# Altium schematic symbol library Altium_WE_eiSos_WE-DS Bent 90°-TH.SchLib: 8 symbols
Pins are listed as number, name and electrical type; pins without a type are passive.

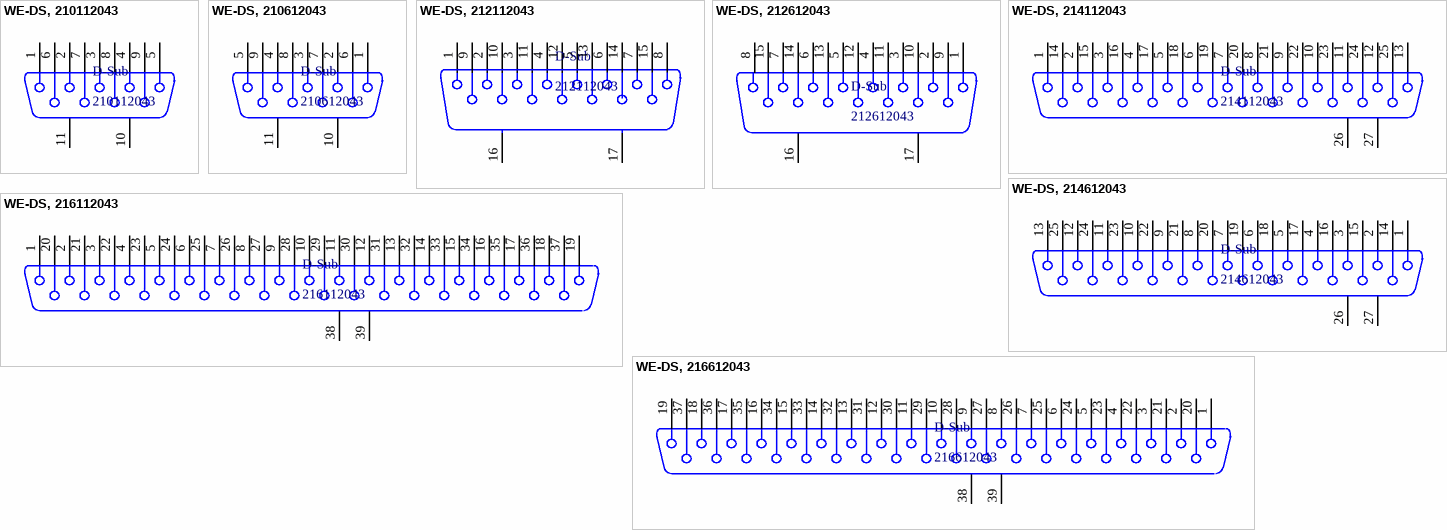
[diagram p0: symbols WE-DS, 210112043 to WE-DS, 216612043]

## WE-DS, 210112043
designator D-Sub, comment 210112043
D-SUB-Filter Connectors WE-DS, Bent 90°,TH; Manufacturer: Würth Elektronik eiSos GmbH; partNo: 210112043; ComponentLink1Description: Manufacturer; ComponentLink1URL: http://www.we-online.de; Created by: Christin Zierenner; Created Date: May 2012; ComponentLink2Description: Datasheet; ComponentLink2URL: http://katalog.we-online.de/kataloge/eisos/index.php?language=en&pf=Filter_abgewinkelt
footprint WE-DS, 210112043 (D-SUB- 9P, MALE, RT ANGLE, TH)
pins: 1, 2, 3, 4, 5, 6, 7, 8, 9, 10 MH1, 11 MH2

## WE-DS, 210612043
designator D-Sub, comment 210612043
D-SUB-Filter Connectors WE-DS, Bent 90°,TH; Manufacturer: Würth Elektronik eiSos GmbH; partNo: 210612043; ComponentLink1Description: Manufacturer; ComponentLink1URL: http://www.we-online.de; Created by: Christin Zierenner; Created Date: May 2012; ComponentLink2Description: Datasheet; ComponentLink2URL: http://katalog.we-online.de/kataloge/eisos/index.php?language=en&pf=Filter_abgewinkelt
footprint WE-DS, 210612043 (D-SUB- 9P, FEMALE, RT ANGLE, TH)
pins: 1, 2, 3, 4, 5, 6, 7, 8, 9, 10 MH1, 11 MH2

## WE-DS, 212112043
designator D-Sub, comment 212112043
D-SUB-Filter Connectors WE-DS, Bent 90°,TH; Manufacturer: Würth Elektronik eiSos GmbH; partNo: 212112043; ComponentLink1Description: Manufacturer; ComponentLink1URL: http://www.we-online.de; Created by: Christin Zierenner; Created Date: May 2012; ComponentLink2Description: Datasheet; ComponentLink2URL: http://katalog.we-online.de/kataloge/eisos/index.php?language=en&pf=Filter_abgewinkelt
footprint WE-DS, 212112043 (D-SUB- 15P, MALE, RT ANGLE, TH)
pins: 1, 2, 3, 4, 5, 6, 7, 8, 9, 10, 11, 12, 13, 14, 15, 16 MH1, 17 MH2

## WE-DS, 212612043
designator D-Sub, comment 212612043
D-SUB-Filter Connectors WE-DS, Bent 90°,TH; Manufacturer: Würth Elektronik eiSos GmbH; partNo: 212612043; ComponentLink1Description: Manufacturer; ComponentLink1URL: http://www.we-online.de; Created by: Christin Zierenner; Created Date: May 2012; ComponentLink2Description: Datasheet; ComponentLink2URL: http://katalog.we-online.de/kataloge/eisos/index.php?language=en&pf=Filter_abgewinkelt
footprint WE-DS, 212612043 (D-SUB- 15P, FEMALE, RT ANGLE, TH)
pins: 1, 2, 3, 4, 5, 6, 7, 8, 9, 10, 11, 12, 13, 14, 15, 16 MH1, 17 MH2

## WE-DS, 214112043
designator D-Sub, comment 214112043
D-SUB-Filter Connectors WE-DS, Bent 90°,TH; Manufacturer: Würth Elektronik eiSos GmbH; partNo: 214112043; ComponentLink1Description: Manufacturer; ComponentLink1URL: http://www.we-online.de; Created by: Christin Zierenner; Created Date: May 2012; ComponentLink2Description: Datasheet; ComponentLink2URL: http://katalog.we-online.de/kataloge/eisos/index.php?language=en&pf=Filter_abgewinkelt
footprint WE-DS, 214112043 (D-SUB- 25P, MALE, RT ANGLE, TH)
pins: 1, 2, 3, 4, 5, 6, 7, 8, 9, 10, 11, 12, 13, 14, 15, 16, 17, 18, 19, 20, 21, 22, 23, 24, 25, 26 MH1, 27 MH2

## WE-DS, 214612043
designator D-Sub, comment 214612043
D-SUB-Filter Connectors WE-DS, Bent 90°,TH; Manufacturer: Würth Elektronik eiSos GmbH; partNo: 214612043; ComponentLink1Description: Manufacturer; ComponentLink1URL: http://www.we-online.de; Created by: Christin Zierenner; Created Date: May 2012; ComponentLink2Description: Datasheet; ComponentLink2URL: http://katalog.we-online.de/kataloge/eisos/index.php?language=en&pf=Filter_abgewinkelt
footprint WE-DS, 214612043 (D-SUB- 25P, FEMALE, RT ANGLE, TH)
pins: 1, 2, 3, 4, 5, 6, 7, 8, 9, 10, 11, 12, 13, 14, 15, 16, 17, 18, 19, 20, 21, 22, 23, 24, 25, 26 MH1, 27 MH2

## WE-DS, 216112043
designator D-Sub, comment 216112043
D-SUB-Filter Connectors WE-DS, Bent 90°,TH; Manufacturer: Würth Elektronik eiSos GmbH; partNo: 216112043; ComponentLink1Description: Manufacturer; ComponentLink1URL: http://www.we-online.de; Created by: Christin Zierenner; Created Date: May 2012; ComponentLink2Description: Datasheet; ComponentLink2URL: http://katalog.we-online.de/kataloge/eisos/index.php?language=en&pf=Filter_abgewinkelt
footprint WE-DS, 216112043 (D-SUB- 37P, MALE, RT ANGLE, TH)
pins: 1, 2, 3, 4, 5, 6, 7, 8, 9, 10, 11, 12, 13, 14, 15, 16, 17, 18, 19, 20, 21, 22, 23, 24, 25, 26, 27, 28, 29, 30, 31, 32, 33, 34, 35, 36, 37, 38 MH1, 39 MH2

## WE-DS, 216612043
designator D-Sub, comment 216612043
D-SUB-Filter Connectors WE-DS, Bent 90°,TH; Manufacturer: Würth Elektronik eiSos GmbH; partNo: 216612043; ComponentLink1Description: Manufacturer; ComponentLink1URL: http://www.we-online.de; Created by: Christin Zierenner; Created Date: May 2012; ComponentLink2Description: Datasheet; ComponentLink2URL: http://katalog.we-online.de/kataloge/eisos/index.php?language=en&pf=Filter_abgewinkelt
footprint WE-DS, 216612043 (D-SUB- 37P, FEMALE, RT ANGLE, TH)
pins: 1, 2, 3, 4, 5, 6, 7, 8, 9, 10, 11, 12, 13, 14, 15, 16, 17, 18, 19, 20, 21, 22, 23, 24, 25, 26, 27, 28, 29, 30, 31, 32, 33, 34, 35, 36, 37, 38 MH1, 39 MH2